# Altium schematic symbol library TD-103-G-A.SchLib: 1 symbol
Pins are listed as number, name and electrical type; pins without a type are passive.

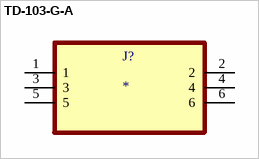
[diagram p0: symbol TD-103-G-A]

## TD-103-G-A
designator J?
Connecteur Embase Trou traversant 6 positions 0,100po (2,54mm); MF: Samtec Inc.; MP: TD-103-G-A; SnapEDA_Link: https://www.snapeda.com/parts/TD-103-G-A/Samtec+Inc./view-part/?ref=snap; Package: None; Value: *; Check_prices: https://www.snapeda.com/parts/TD-103-G-A/Samtec+Inc./view-part/?ref=eda
footprint SAMTEC_TD-103-G-A
pins: 1, 2, 3, 4, 5, 6